# Altium footprint library Power.PcbLib: 1 footprints
Each footprint in its own frame and in the unit in brackets; x right, y up, seen from the top. Pads: shape width x height; smd on the part's side, far side on the other; paste and mask are expansions set on the pad; w line width, h text height; cw(c..) or ccw(c..) is an arc to the next point about the centre after c.
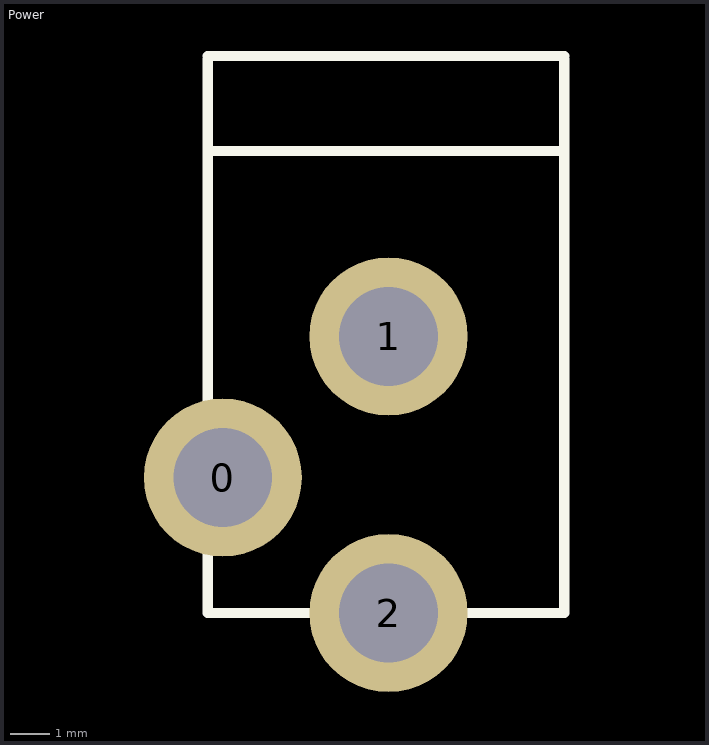
[diagram p0: the footprint, top view; thin cyan lines are the x and y axes]

## Power [mm]
pads (3):
  round 4 hole 2.5: 0(-1261.11,-1258.316) 1(-1256.919,-1254.745) 2(-1256.919,-1261.745)
Top Overlay:
  lines w0.254: -1261.491,-1247.745 -1261.491,-1261.745 -1252.474,-1261.745 -1252.474,-1247.745 ; -1261.491,-1247.648 -1252.474,-1247.648 ; -1261.364,-1250.061 -1252.474,-1250.061